# EAGLE library part IC_MEM_23LC1024 (library dp_devices)
1Mbit SPI SRAM with Serial dual interface and Serial quad interface
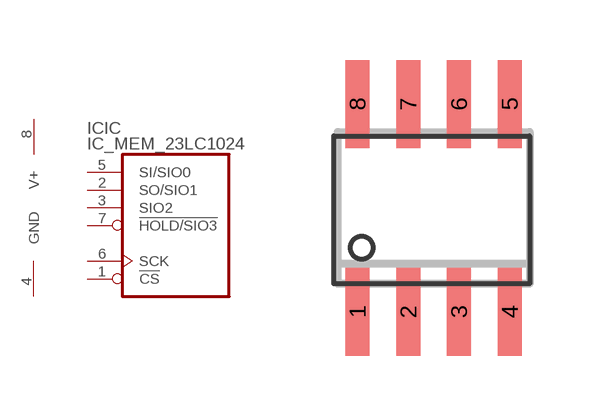
[diagram p112: symbol with the pads of SOIC-8; footprint SOIC-8]

Designator prefix IC; gates IC=SRAM-23LCXXXX SUP=SUPPLY

## IC_MEM_23LC1024  [SOIC-8]
1  IC:!CS  in
2  IC:SO/SIO1
3  IC:SIO2
4  SUP:GND  sup
5  IC:SI/SIO0
6  IC:SCK  in
7  IC:!HOLD/SIO3  in
8  SUP:V+  sup

## Footprint SOIC-8 (pad centres in mm)
smd 0.6 x 2.2: 1 -1.905,-2.6; 2 -0.635,-2.6; 3 0.635,-2.6; 4 1.905,-2.6; 5 1.905,2.6; 6 0.635,2.6; 7 -0.635,2.6; 8 -1.905,2.6